# Altium schematic symbol library elisa.SchLib: 34 symbols (part 1 of 2)
Pins are listed as number, name and electrical type; pins without a type are passive.

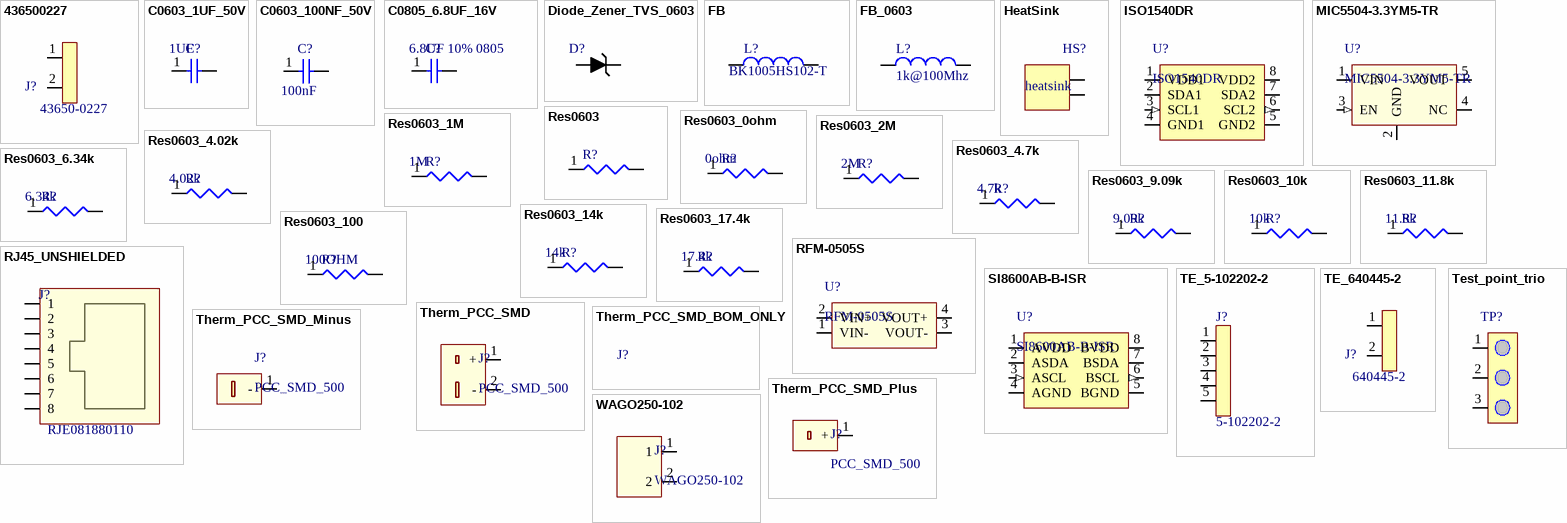
[diagram p0: symbols 436500227 to WAGO250-102]

## 436500227
designator J?  Manufacturer Part Number 1: 43650-0227  (hidden comment: *)
CONN HEADER VERT 2POS 3MM; Manufacturer 1: Molex; Connector Type: Header,Male Pin; Number of Positions: 2; Number of Ports: 1; Mount: Through Hole; Contact Material: Brass; Contact Plating: Tin,Bright; Color: Black; Housing Material: Thermoplastic; Number of Terminals: 2; Contact Shape: Square; Insulation Material: Polymer; Min Operating Temperature: -40°C; Max Operating Temperature: 105°C; Packaging: Tray; Package Quantity: 3264; Number of Rows: 1; Fastening Type: Ramp; Termination: Solder; Number of Contacts: 2; Orientation: Straight; Length: 9.65mm; Pitch: 3mm; Depth: 5.57mm; ComponentLink1URL: https://datasheet.ciiva.com/6840/436500227-sd-6840390.pdf?src-supplier=Digi-Key; ComponentLink1Description: https://datasheet.ciiva.com/6840/436500227-sd-6840390.pdf?src-supplier=Digi-Key; ComponentLink2URL: https://datasheet.ciiva.com/3944/28290436500227-pcb-headers-3944690.pdf?src-supplier=Arrow; ComponentLink2Description: https://datasheet.ciiva.com/3944/28290436500227-pcb-headers-3944690.pdf?src-supplier=Arrow; ComponentLink3URL: https://datasheet.ciiva.com/30077/0436500227-pcb-headers-30077244.pdf?src-supplier=Onlinecomponents.com; ComponentLink3Description: https://datasheet.ciiva.com/30077/0436500227-pcb-headers-30077244.pdf?src-supplier=Onlinecomponents.com; ComponentLink4URL: https://datasheet.ciiva.com/7920/1629867-7920765.pdf?src-supplier=Element14; ComponentLink4Description: https://datasheet.ciiva.com/7920/1629867-7920765.pdf?src-supplier=Element14; Pricing 1: 1=0.80000, 10=0.74800, 100=0.57340, 500=0.49860, 1000=0.41135, 5000=0.36149, 10000=0.33656 (USD); RoHS: Yes; Stock 1: 4450; Supplier 1: Digi-Key; Supplier Part Number 1: WM10656-ND
footprint 436500227
pins: 1, 2

## C0603_1UF_50V
designator C?, comment 1UF
CAP CER 1UF 50V X5R 0603; Manufacturer 1: TDK; Manufacturer Part Number 1: CGA3E3X5R1H105K080AB; Tolerance: 10%; ComponentLink1URL: https://product.tdk.com/info/en/catalog/datasheets/mlcc_automotive_general_en.pdf; ComponentLink1Description: https://product.tdk.com/info/en/catalog/datasheets/mlcc_automotive_general_en.pdf; Mount: Surface Mount; Case/Package: 0603; Weight: 7.1E-05oz; Case Code (Imperial): 0603; Case Code (Metric): 1608; Min Operating Temperature: -55°C; Max Operating Temperature: 85°C; Capacitance: 1uF; Voltage Rating: 50V; Voltage Rating (DC): 50V; Packaging: Tape and Reel; Package Quantity: 1; Termination: SMD/SMT; Composition: Ceramic; Dielectric: X5R; Length: 1.6mm; Height: 0.8mm; Width: 0.8mm; Thickness: 0.031inch; Depth: 0.8mm; Ratings: AEC-Q200; Lead Free: Lead Free; REACH SVHC: No SVHC; ComponentLink2URL: https://datasheet.ciiva.com/24218/cga3e3x5r1h105k080ab-265988-24218999.pdf?src-supplier=Mouser; ComponentLink2Description: https://datasheet.ciiva.com/24218/cga3e3x5r1h105k080ab-265988-24218999.pdf?src-supplier=Mouser; ComponentLink3URL: https://datasheet.ciiva.com/7975/1807242-7975388.pdf?src-supplier=Element14; ComponentLink3Description: https://datasheet.ciiva.com/7975/1807242-7975388.pdf?src-supplier=Element14; Supplier 1: Digi-Key; Supplier Part Number 1: 445-7878-1-ND; RoHS: Yes; Category: Ceramic Capacitors; Stock 1: 200723; Pricing 1: 1=0.25000, 10=0.17300, 50=0.11560, 100=0.09820, 500=0.06930, 1000=0.06064 (USD)
footprint 0603R(1608)
pins: 1, 2

## C0603_100NF_50V
designator C?  value 100nF  (hidden comment: *)
CAP CER 0.1UF 50V X5R 0603; Manufacturer: TDK Corporation; Manufacturer Part Number: CGA3E2X5R1H104K080AA; Capacitance: 0.1µF; Tolerance: ±10%; Supplier 1: Digi-Key; Supplier Part Number 1: 445-12498-1-ND; RoHS: RoHS Compliant; Category: Capacitors; Stock 1: 8997; Pricing 1: 1=0.1, 10=0.076, 25=0.0552, 50=0.0414, 100=0.0338, 250=0.02828, 500=0.02416, 1000=0.01898 (USD); Packaging: Cut Tape (CT); Part Status: Active; Voltage - Rated: 50V; Temperature Coefficient: X5R; Operating Temperature: -55°C ~ 85°C; Features: -; Ratings: AEC-Q200; Applications: Automotive; Failure Rate: -; Mounting Type: Surface Mount, MLCC; Package / Case: 0603 (1608 Metric); Size / Dimension: 0.063" L x 0.031" W (1.60mm x 0.80mm); Height - Seated (Max): -; Thickness (Max): 0.035" (0.90mm); Lead Spacing: -; Lead Style: -; ComponentLink1URL: https://product.tdk.com/info/en/catalog/datasheets/mlcc_automotive_general_en.pdf; ComponentLink1Description: https://product.tdk.com/info/en/catalog/datasheets/mlcc_automotive_general_en.pdf
footprint 0603R(1608)
pins: 1, 2

## C0805_6.8UF_16V
designator C?, comment 6.8UF 10% 0805
CAP CER 6.8UF 16V X5R 0805; Manufacturer Part Number 1: CGA4J1X5R1C685K125AC; Manufacturer 1: TDK; ComponentLink1URL: http://www.yageo.com/documents/recent/UPY-GPHC_X5R_4V-to-50V_24.pdf; ComponentLink1Description: http://www.yageo.com/documents/recent/UPY-GPHC_X5R_4V-to-50V_24.pdf; Mount: Surface Mount; Case/Package: 0805; Case Code (Metric): 2012; Case Code (Imperial): 0805; Min Operating Temperature: -55°C; Max Operating Temperature: 85°C; Package Quantity: 2000; Packaging: Tape and Reel; Capacitance: 6.8uF; Tolerance: 10%; Voltage Rating: 16V; Length: 0.079inch; Thickness: 0.057inch; Width: 0.049inch; Ratings: AEC-Q200; ComponentLink2URL: https://product.tdk.com/info/en/catalog/datasheets/mlcc_automotive_general_en.pdf?src-supplier=Digi-Key; ComponentLink2Description: https://product.tdk.com/info/en/catalog/datasheets/mlcc_automotive_general_en.pdf?src-supplier=Digi-Key; ComponentLink3URL: https://product.tdk.com/info/en/documents/chara_sheet/CGA4J1X5R1C685K125AC.pdf?src-supplier=Digi-Key; ComponentLink3Description: https://product.tdk.com/info/en/documents/chara_sheet/CGA4J1X5R1C685K125AC.pdf?src-supplier=Digi-Key; ComponentLink4URL: http://product.tdk.com/en/catalog/datasheets/mlcc_automotive_general_en.pdf?src-supplier=Avnet; ComponentLink4Description: http://product.tdk.com/en/catalog/datasheets/mlcc_automotive_general_en.pdf?src-supplier=Avnet; Pricing 1: 1=0.46000, 10=0.32200, 50=0.24340, 100=0.21210, 500=0.15708, 1000=0.13352 (USD); Stock 1: 3937; Category: Ceramic Capacitors; RoHS: Yes; Supplier 1: Digi-Key; Supplier Part Number 1: 445-12661-1-ND
simulation model CAP (Capacitor)
footprint 0805
pins: 1, 2

## Diode_Zener_TVS_0603
designator D?  (value not drawn)
TVS DIODE 5V 25V 0603/SOD523F; Manufacturer 1: Comchip; Manufacturer Part Number 1: CPDU5V0USP-HF; Peak Pulse Current: 3A; Number of Unidirectional Channels: 1; Min Breakdown Voltage: 5.4V; Peak Pulse Power: 75W; Power Line Protection: No; Mount: Surface Mount; Case/Package: 0603; Case Code (Metric): 1608; Case Code (Imperial): 0603; Min Operating Temperature: -55°C; Max Operating Temperature: 150°C; Packaging: Tape and Reel; Composition: Zener; Reverse Standoff Voltage: 5V; Clamping Voltage: 25V; ComponentLink1URL: http://www.comchiptech.com/admin/files/product/CPDU5V0USP-HF RevC423724.pdf?src-supplier=Digi-Key; ComponentLink1Description: http://www.comchiptech.com/admin/files/product/CPDU5V0USP-HF RevC423724.pdf?src-supplier=Digi-Key; Supplier Part Number 1: 641-1763-1-ND; Supplier 1: Digi-Key; RoHS: Yes; Category: TVS Diodes; Stock 1: 46889; Pricing 1: 1=0.35000, 10=0.26100, 25=0.22840, 100=0.12390, 250=0.12324, 500=0.10106, 1000=0.07498 (USD)
footprint 0603D(1608mm)
pins: A, K

## FB
designator L?  Manufacturer Part Number 1: BK1005HS102-T  (hidden comment: *)
FERRITE BEAD 1 KOHM 0402 1LN; Manufacturer 1: Taiyo Yuden; Tolerance: 25%; Shielding: Unshielded; Impedance: 1kR; DC Resistance (DCR): 580mR; Max DC Current: 300mA; Number of Lines: 1; Test Frequency: 100MHz; Case/Package: 0402; Number of Pins: 2; Core Material: Ferrite; Case Code (Metric): 1005; Case Code (Imperial): 0402; Material: Ferrite; Min Operating Temperature: -55°C; Max Operating Temperature: 125°C; Packaging: Tape and Reel; Package Quantity: 1; Current Rating: 300mA; Max Current Rating: 300mA; Termination: SMD/SMT; Length: 1mm; Height: 0.5mm; Width: 0.02inch; Depth: 0.55mm; Lead Free: Lead Free; Halogen Free: Halogen Free; REACH SVHC: Unknown; ComponentLink1URL: https://datasheet.ciiva.com/1011/bk1005hs102-t-ss-1011744.pdf?src-supplier=Digi-Key; ComponentLink1Description: https://datasheet.ciiva.com/1011/bk1005hs102-t-ss-1011744.pdf?src-supplier=Digi-Key; ComponentLink2URL: https://datasheet.ciiva.com/25612/0900766b810b3a67-25612385.pdf?src-supplier=RSComponents; ComponentLink2Description: https://datasheet.ciiva.com/25612/0900766b810b3a67-25612385.pdf?src-supplier=RSComponents; ComponentLink3URL: https://datasheet.ciiva.com/30172/965bk1005hs102-t-30172156.pdf?src-supplier=Onlinecomponents.com; ComponentLink3Description: https://datasheet.ciiva.com/30172/965bk1005hs102-t-30172156.pdf?src-supplier=Onlinecomponents.com; ComponentLink4URL: https://datasheet.ciiva.com/1011/mlci07-e-1011745.pdf?src-supplier=Digi-Key; ComponentLink4Description: https://datasheet.ciiva.com/1011/mlci07-e-1011745.pdf?src-supplier=Digi-Key; ComponentLink5URL: https://datasheet.ciiva.com/1011/mlci07-e-1011746.pdf?src-supplier=Digi-Key; ComponentLink5Description: https://datasheet.ciiva.com/1011/mlci07-e-1011746.pdf?src-supplier=Digi-Key; Pricing 1: 1=0.10000, 10=0.04100, 25=0.03640, 50=0.03300, 100=0.02970, 250=0.02180, 500=0.01584, 1000=0.01551, 5000=0.01056 (USD); RoHS: Yes; Stock 1: 221896; Supplier 1: Digi-Key; Supplier Part Number 1: 587-1841-1-ND
simulation model INDUCTOR (Inductor)
signal-integrity model Inductor
footprint 0402-FB
pins: 1, 2

## FB_0603
designator L?, comment 1k@100Mhz
Ferrite Beads Multi-Layer Power 1KOhm 25% 100MHz 1A 200mOhm DCR 0603 Automotive T/R; Manufacturer 1: Murata; Manufacturer Part Number 1: BLM18KG102SZ1D; Number of Lines: 1; DC Resistance (DCR): 200mR; ComponentLink1URL: https://datasheet.ciiva.com/46634/beads-commercial-power-mpz-en-46634677.pdf?src-supplier=Digi-Key; ComponentLink1Description: https://datasheet.ciiva.com/46634/beads-commercial-power-mpz-en-46634677.pdf?src-supplier=Digi-Key; ComponentLink2URL: https://datasheet.ciiva.com/48682/beads-commercial-power-mpz-en-48682501.pdf?src-supplier=Avnet; ComponentLink2Description: https://datasheet.ciiva.com/48682/beads-commercial-power-mpz-en-48682501.pdf?src-supplier=Avnet; ComponentLink3URL: https://datasheet.ciiva.com/46634/beads-commercial-power-mpz-en-46634684.pdf?src-supplier=Digi-Key; ComponentLink3Description: https://datasheet.ciiva.com/46634/beads-commercial-power-mpz-en-46634684.pdf?src-supplier=Digi-Key; ComponentLink4URL: https://datasheet.ciiva.com/46634/beads-commercial-power-mpz-en-46634621.pdf?src-supplier=Digi-Key; ComponentLink4Description: https://datasheet.ciiva.com/46634/beads-commercial-power-mpz-en-46634621.pdf?src-supplier=Digi-Key; Mount: Surface Mount; Case/Package: 0603; Case Code (Imperial): 0603; Case Code (Metric): 1608; Min Operating Temperature: -55°C; Max Operating Temperature: 125°C; Packaging: Cut Tape; Max Current Rating: 1A; Ratings: AEC-Q200; ComponentLink5URL: https://www.murata.com/~/media/webrenewal/support/library/catalog/products/emc/emifil/c51e.ashx?la=en-us&src-supplier=Digi-Key; ComponentLink5Description: https://www.murata.com/~/media/webrenewal/support/library/catalog/products/emc/emifil/c51e.ashx?la=en-us&src-supplier=Digi-Key; ComponentLink6URL: https://www.murata.com/en-us/products/productdata/8796750610462/QNFA9122.pdf?src-supplier=Digi-Key; ComponentLink6Description: https://www.murata.com/en-us/products/productdata/8796750610462/QNFA9122.pdf?src-supplier=Digi-Key; Supplier 1: Digi-Key; Supplier Part Number 1: 490-17350-1-ND; RoHS: No; Stock 1: 14664; Pricing 1: 1=0.10000, 10=0.07300, 25=0.06520, 50=0.05540, 100=0.04880, 250=0.04476, 500=0.04070, 1000=0.03419 (USD)
simulation model INDUCTOR (Inductor)
signal-integrity model Inductor
footprint 0603FB(1608mm)
pins: 1, 2

## HeatSink
designator HS?, comment Aavid5733  (value not drawn)
Surface Mount Heat Sink for D2PAK
footprint Aavid5733 (Heat Sink to be installed around D2PAK)
pins: 1 GND, 2 GND
text: heatsink

## ISO1540DR
designator U?
TEXAS INSTRUMENTS - ISO1540DR - DIGITAL ISOLATOR, 2-CH, 1MBPS, SOIC-8; Number of Channels: 2; Min Supply Voltage: 3V; Max Supply Voltage: 5.5V; Nominal Supply Current: 3.6mA; Channel Type: Bidirectional; Propagation Delay: 70ns; Isolated Power: No; Pulse Width Distortion (PWD): 21ns; Working Voltage: 566V; Mount: Surface Mount; Case/Package: SOIC; Number of Pins: 8; Min Operating Temperature: -40°C; Max Operating Temperature: 125°C; Data Rate: 1Mbps; Packaging: Tape and Reel; Package Quantity: 1; REACH SVHC: No SVHC; Lead Free: Lead Free; ComponentLink1URL: https://datasheet.ciiva.com/6579/iso1540-6579725.pdf?src-supplier=Digi-Key; ComponentLink1Description: https://datasheet.ciiva.com/6579/iso1540-6579725.pdf?src-supplier=Digi-Key; ComponentLink2URL: https://datasheet.ciiva.com/6579/iso1540-6579723.pdf?src-supplier=Digi-Key; ComponentLink2Description: https://datasheet.ciiva.com/6579/iso1540-6579723.pdf?src-supplier=Digi-Key; ComponentLink3URL: https://datasheet.ciiva.com/6579/iso1540-6579724.pdf?src-supplier=Digi-Key; ComponentLink3Description: https://datasheet.ciiva.com/6579/iso1540-6579724.pdf?src-supplier=Digi-Key; ComponentLink4URL: https://datasheet.ciiva.com/14196/iso1540-14196749.pdf?src-supplier=Avnet; ComponentLink4Description: https://datasheet.ciiva.com/14196/iso1540-14196749.pdf?src-supplier=Avnet; Supplier 1: Digi-Key; Supplier Part Number 1: 296-34871-1-ND; Manufacturer 1: Texas Instruments; Manufacturer Part Number 1: ISO1540DR; Category: Interface ICs; RoHS: Yes; Stock 1: 30535; Pricing 1: 1=4.51000, 10=4.04600, 25=3.82520, 100=3.14500, 250=2.82200, 500=2.72000, 1000=2.26100 (USD)
footprint SOIC_8_N
pins: 1 VDD1 (power), 2 SDA1 (io), 3 SCL1 (in), 4 GND1 (power), 5 GND2 (power), 6 SCL2 (out), 7 SDA2 (io), 8 VDD2 (power)

## MIC5504-3.3YM5-TR
designator U?
MICROCHIP - MIC5504-3.3YM5-TR - LDO VOLT REG, 0.3A, 3.3V, SOT-23-5; Min Input Voltage: 2.5V; Max Input Voltage: 5.5V; Output Current: 300mA; Dropout Voltage: 380mV; Number of Outputs: 1; Quiescent Current: 38uA; Accuracy: 3%; Operating Supply Current: 42uA; Power Supply Rejection Ratio (PSRR): 60dB; Output Type: Fixed; Mount: Surface Mount; Case/Package: SOT-23-5; Number of Pins: 5; Min Operating Temperature: -40°C; Max Operating Temperature: 125°C; Nominal Output Voltage: 3.3V; Packaging: Tape and Reel; Output Voltage: 3.3V; Max Output Current: 300mA; Length: 2.9mm; Height: 1.1mm; Width: 1.6mm; REACH SVHC: No SVHC; ComponentLink1URL: https://datasheet.ciiva.com/46425/1856860-46425639.pdf?src-supplier=Element14; ComponentLink1Description: https://datasheet.ciiva.com/46425/1856860-46425639.pdf?src-supplier=Element14; Supplier 1: Digi-Key; Supplier Part Number 1: 576-4764-1-ND; Manufacturer 1: Microchip; Manufacturer Part Number 1: MIC5504-3.3YM5-TR; RoHS: Yes; Category: Voltage Regulators - Linear; Stock 1: 1142; Pricing 1: 1=0.11000, 25=0.09000, 100=0.08000 (USD)
footprint SOT_23_5
pins: 1 VIN (power), 2 GND (power), 3 EN (in), 4 NC, 5 VOUT (power)

## Res0603
designator R?  (value not drawn)
simulation model RESISTOR (Resistor)
signal-integrity model Res
footprint 0603R(1608)
pins: 1, 2

## Res0603_0ohm
designator R?, comment 0ohm
RES 0 OHM JUMPER 0603 SMD; Manufacturer 1: Panasonic; Manufacturer Part Number 1: ERJ-U030R00V; Resistance: 0mR; Power Rating: 100mW; Mount: Surface Mount; Case/Package: 0603; Weight: 7.1E-05oz; Case Code (Imperial): 0603; Case Code (Metric): 1608; Contact Plating: Tin; Min Operating Temperature: -55°C; Max Operating Temperature: 155°C; Composition: Thick Film; Termination: SMD/SMT; Packaging: Tape and Reel; Package Quantity: 5000; Length: 1.6mm; Height: 0.45mm; Width: 0.8mm; Radiation Hardening: No; Lead Free: Lead Free; ComponentLink1URL: https://datasheet.ciiva.com/29928/aoa0000ce5-29928299.pdf?src-supplier=Avnet; ComponentLink1Description: https://datasheet.ciiva.com/29928/aoa0000ce5-29928299.pdf?src-supplier=Avnet; ComponentLink2URL: https://datasheet.ciiva.com/24129/ras-erj-u-267552-24129276.pdf?src-supplier=Mouser; ComponentLink2Description: https://datasheet.ciiva.com/24129/ras-erj-u-267552-24129276.pdf?src-supplier=Mouser; Supplier 1: Digi-Key; Supplier Part Number 1: 10-ERJ-U030R00VCT-ND; RoHS: Yes; Category: Chip SMD Resistors; Stock 1: 1407; Pricing 1: 1=0.10000, 10=0.08400, 100=0.03250, 1000=0.01428, 2500=0.01233 (USD)
simulation model RESISTOR (Resistor)
signal-integrity model Res
footprint 0603R(1608)
pins: 1, 2

## Res0603_1M
designator R?, comment 1M
RES SMD 1M OHM 1% 1/10W 0603; Manufacturer 1: Panasonic; Manufacturer Part Number 1: ERJ-3EKF1004V; Resistance: 1MR; Temperature Coefficient: 100ppm/°C; Power Rating: 100mW; Voltage Rating: 75V; Mount: Surface Mount; Case/Package: 0603; Number of Pins: 2; Contact Plating: Tin; Case Code (Imperial): 0603; Case Code (Metric): 1608; Min Operating Temperature: -55°C; Max Operating Temperature: 155°C; Tolerance: 1%; Composition: Thick Film; Packaging: Tape and Reel; Package Quantity: 1; Termination: SMD/SMT; Number of Terminations: 2; Military Standard: Not; Max Power Dissipation: 100mW; Voltage Rating (DC): 75V; Features: Automotive AEC-Q200; Length: 1.6mm; Height: 0.022inch; Width: 0.8mm; Depth: 0.8mm; Radiation Hardening: No; REACH SVHC: No SVHC; Lead Free: Lead Free; ComponentLink1URL: https://datasheet.ciiva.com/2432/aoa0000c304-2432473.pdf?src-supplier=Digi-Key; ComponentLink1Description: https://datasheet.ciiva.com/2432/aoa0000c304-2432473.pdf?src-supplier=Digi-Key; Supplier Part Number 1: P1.00MHCT-ND; Supplier 1: Digi-Key; RoHS: Yes; Category: Chip SMD Resistors; Stock 1: 65782; Pricing 1: 1=0.10000, 10=0.03500, 100=0.01430, 1000=0.00641, 2500=0.00557 (USD)
simulation model RESISTOR (Resistor)
signal-integrity model Res
footprint 0603R(1608)
pins: 1, 2

## Res0603_2M
designator R?, comment 2M
RES SMD 2M OHM 1% 1/10W 0603; Manufacturer 1: Panasonic; Manufacturer Part Number 1: ERJ-3EKF2004V; Resistance: 2MR; Power Rating: 100mW; Voltage Rating: 75V; Temperature Coefficient: 100ppm/°C; Voltage Rating (DC): 50V; Mount: Surface Mount; Case/Package: 0603; Weight: 7.1E-05oz; Case Code (Metric): 1608; Case Code (Imperial): 0603; Contact Plating: Tin; Min Operating Temperature: -55°C; Max Operating Temperature: 155°C; Tolerance: 1%; Packaging: Tape and Reel; Package Quantity: 1; Composition: Thick Film; Number of Terminations: 2; Termination: SMD/SMT; Military Standard: Not; Max Power Dissipation: 100mW; Features: Automotive AEC-Q200; Length: 1.6mm; Height: 0.022inch; Width: 0.031inch; Depth: 0.8mm; Radiation Hardening: No; REACH SVHC: Unknown; Lead Free: Lead Free; ComponentLink1URL: https://datasheet.ciiva.com/15158/getdatasheetpartid-246477-15158838.pdf?src-supplier=Verical; ComponentLink1Description: https://datasheet.ciiva.com/15158/getdatasheetpartid-246477-15158838.pdf?src-supplier=Verical; ComponentLink2URL: https://datasheet.ciiva.com/16758/70260748-16758662.pdf?src-supplier=Allied+Electronics; ComponentLink2Description: https://datasheet.ciiva.com/16758/70260748-16758662.pdf?src-supplier=Allied+Electronics; ComponentLink3URL: https://datasheet.ciiva.com/28594/1694929-28594632.pdf?src-supplier=Element14; ComponentLink3Description: https://datasheet.ciiva.com/28594/1694929-28594632.pdf?src-supplier=Element14; ComponentLink4URL: https://datasheet.ciiva.com/30178/aoa0000ce2-30178728.pdf?src-supplier=Onlinecomponents.com; ComponentLink4Description: https://datasheet.ciiva.com/30178/aoa0000ce2-30178728.pdf?src-supplier=Onlinecomponents.com; ComponentLink5URL: https://datasheet.ciiva.com/5951/1678782-5951962.pdf?src-supplier=Farnell; ComponentLink5Description: https://datasheet.ciiva.com/5951/1678782-5951962.pdf?src-supplier=Farnell; ComponentLink6URL: https://datasheet.ciiva.com/7853/1678782-7853709.pdf?src-supplier=Element14; ComponentLink6Description: https://datasheet.ciiva.com/7853/1678782-7853709.pdf?src-supplier=Element14; ComponentLink7URL: https://datasheet.ciiva.com/16780/70260748-16780974.pdf?src-supplier=Allied+Electronics; ComponentLink7Description: https://datasheet.ciiva.com/16780/70260748-16780974.pdf?src-supplier=Allied+Electronics; ComponentLink8URL: https://datasheet.ciiva.com/24162/aoa0000ce2-24162142.pdf?src-supplier=Mouser; ComponentLink8Description: https://datasheet.ciiva.com/24162/aoa0000ce2-24162142.pdf?src-supplier=Mouser; Supplier 1: Digi-Key; Supplier Part Number 1: P2.00MHCT-ND; RoHS: Yes; Pricing 1: 1=0.10000, 10=0.05800, 100=0.02370, 1000=0.01065, 2500=0.00925 (USD); Stock 1: 241456; Category: Chip SMD Resistors
simulation model RESISTOR (Resistor)
signal-integrity model Res
footprint 0603R(1608)
pins: 1, 2

## Res0603_4.02k
designator R?, comment 4.02k
RES SMD 4.02K OHM 1% 1/10W 0603; Manufacturer 1: Panasonic; Manufacturer Part Number 1: ERJ-3EKF4021V; Resistance: 4.02kR; Temperature Coefficient: 100ppm/°C; Power Rating: 100mW; Voltage Rating: 75V; Voltage Rating (DC): 50V; Mount: Surface Mount; Case/Package: 0603; Contact Plating: Tin; Case Code (Metric): 1608; Case Code (Imperial): 0603; Min Operating Temperature: -55°C; Max Operating Temperature: 155°C; Tolerance: 1%; Composition: Thick Film; Packaging: Tape and Reel; Package Quantity: 1; Number of Terminations: 2; Military Standard: Not; Termination: SMD/SMT; Max Power Dissipation: 100mW; Features: Automotive AEC-Q200; Length: 1.6mm; Height: 0.022inch; Width: 0.031inch; Depth: 0.8mm; Radiation Hardening: No; REACH SVHC: No SVHC; Lead Free: Lead Free; ComponentLink1URL: https://datasheet.ciiva.com/30235/aoa0000ce2-30235126.pdf?src-supplier=Onlinecomponents.com; ComponentLink1Description: https://datasheet.ciiva.com/30235/aoa0000ce2-30235126.pdf?src-supplier=Onlinecomponents.com; ComponentLink2URL: https://datasheet.ciiva.com/27055/1988081-27055687.pdf?src-supplier=Jameco; ComponentLink2Description: https://datasheet.ciiva.com/27055/1988081-27055687.pdf?src-supplier=Jameco; ComponentLink3URL: https://datasheet.ciiva.com/28694/1678782-28694215.pdf?src-supplier=Element14; ComponentLink3Description: https://datasheet.ciiva.com/28694/1678782-28694215.pdf?src-supplier=Element14; ComponentLink4URL: https://datasheet.ciiva.com/5969/426256-5969272.pdf?src-supplier=Farnell; ComponentLink4Description: https://datasheet.ciiva.com/5969/426256-5969272.pdf?src-supplier=Farnell; ComponentLink5URL: https://datasheet.ciiva.com/16783/70260748-16783209.pdf?src-supplier=Allied+Electronics; ComponentLink5Description: https://datasheet.ciiva.com/16783/70260748-16783209.pdf?src-supplier=Allied+Electronics; ComponentLink6URL: https://datasheet.ciiva.com/24027/aoa0000ce2-24027179.pdf?src-supplier=Mouser; ComponentLink6Description: https://datasheet.ciiva.com/24027/aoa0000ce2-24027179.pdf?src-supplier=Mouser; ComponentLink7URL: https://datasheet.ciiva.com/43460/426256-43460507.pdf?src-supplier=Farnell; ComponentLink7Description: https://datasheet.ciiva.com/43460/426256-43460507.pdf?src-supplier=Farnell; ComponentLink8URL: https://datasheet.ciiva.com/16511/aoa0000ce2-16511756.pdf?src-supplier=Avnet+Asia; ComponentLink8Description: https://datasheet.ciiva.com/16511/aoa0000ce2-16511756.pdf?src-supplier=Avnet+Asia; ComponentLink9URL: https://datasheet.ciiva.com/48531/aoa0000ce2-48531037.pdf?src-supplier=Avnet; ComponentLink9Description: https://datasheet.ciiva.com/48531/aoa0000ce2-48531037.pdf?src-supplier=Avnet; ComponentLink10URL: https://datasheet.ciiva.com/16781/70260748-16781502.pdf?src-supplier=Allied+Electronics; ComponentLink10Description: https://datasheet.ciiva.com/16781/70260748-16781502.pdf?src-supplier=Allied+Electronics; ComponentLink11URL: https://datasheet.ciiva.com/28548/1678782-28548318.pdf?src-supplier=Element14; ComponentLink11Description: https://datasheet.ciiva.com/28548/1678782-28548318.pdf?src-supplier=Element14; ComponentLink12URL: https://datasheet.ciiva.com/46376/426256-46376943.pdf?src-supplier=Element14; ComponentLink12Description: https://datasheet.ciiva.com/46376/426256-46376943.pdf?src-supplier=Element14; Supplier 1: Digi-Key; Supplier Part Number 1: P4.02KHCT-ND; RoHS: Yes; Category: Chip SMD Resistors; Stock 1: 97776; Pricing 1: 1=0.10000, 10=0.05800, 100=0.02340, 1000=0.01052, 2500=0.00913 (USD)
simulation model RESISTOR (Resistor)
signal-integrity model Res
footprint 0603R(1608)
pins: 1, 2

## Res0603_4.7k
designator R?, comment 4.7k
RESISTOR, 0603, 0.1W, 1%, 4K7; Manufacturer 1: Panasonic; Manufacturer Part Number 1: ERJ-3EKF4701V; Resistance: 4.7kR; Temperature Coefficient: 100ppm/°C; Power Rating: 100mW; Voltage Rating: 75V; Mount: Surface Mount; Case/Package: 0603; Number of Pins: 2; Weight: 7.1E-05oz; Contact Plating: Tin; Case Code (Metric): 1608; Case Code (Imperial): 0603; Min Operating Temperature: -55°C; Max Operating Temperature: 155°C; Tolerance: 1%; Composition: Thick Film; Packaging: Tape and Reel; Package Quantity: 1; Number of Terminations: 2; Termination: SMD/SMT; Military Standard: Not; Max Power Dissipation: 100mW; Voltage Rating (DC): 75V; Features: Automotive AEC-Q200; Length: 1.6mm; Height: 0.022inch; Width: 0.031inch; Depth: 0.8mm; Radiation Hardening: No; REACH SVHC: No SVHC; Lead Free: Lead Free; ComponentLink1URL: https://datasheet.ciiva.com/16449/aoa0000ce2-16449479.pdf?src-supplier=Future+Electronics; ComponentLink1Description: https://datasheet.ciiva.com/16449/aoa0000ce2-16449479.pdf?src-supplier=Future+Electronics; ComponentLink2URL: https://datasheet.ciiva.com/9195/aoa0000ce2-9195740.pdf?src-supplier=Avnet; ComponentLink2Description: https://datasheet.ciiva.com/9195/aoa0000ce2-9195740.pdf?src-supplier=Avnet; ComponentLink3URL: https://datasheet.ciiva.com/16758/70260748-16758189.pdf?src-supplier=Allied+Electronics; ComponentLink3Description: https://datasheet.ciiva.com/16758/70260748-16758189.pdf?src-supplier=Allied+Electronics; ComponentLink4URL: https://datasheet.ciiva.com/24160/aoa0000ce2-24160445.pdf?src-supplier=Mouser; ComponentLink4Description: https://datasheet.ciiva.com/24160/aoa0000ce2-24160445.pdf?src-supplier=Mouser; ComponentLink5URL: https://datasheet.ciiva.com/46372/1678782-46372717.pdf?src-supplier=Element14; ComponentLink5Description: https://datasheet.ciiva.com/46372/1678782-46372717.pdf?src-supplier=Element14; ComponentLink6URL: https://datasheet.ciiva.com/7830/aoa0000ce2-7830735.pdf?src-supplier=Element14; ComponentLink6Description: https://datasheet.ciiva.com/7830/aoa0000ce2-7830735.pdf?src-supplier=Element14; ComponentLink7URL: https://datasheet.ciiva.com/16511/aoa0000ce2-16511783.pdf?src-supplier=Avnet+Asia; ComponentLink7Description: https://datasheet.ciiva.com/16511/aoa0000ce2-16511783.pdf?src-supplier=Avnet+Asia; ComponentLink8URL: https://datasheet.ciiva.com/7830/426256-7830985.pdf?src-supplier=Element14; ComponentLink8Description: https://datasheet.ciiva.com/7830/426256-7830985.pdf?src-supplier=Element14; ComponentLink9URL: https://datasheet.ciiva.com/46372/1678782-46372716.pdf?src-supplier=Element14; ComponentLink9Description: https://datasheet.ciiva.com/46372/1678782-46372716.pdf?src-supplier=Element14; ComponentLink10URL: https://datasheet.ciiva.com/17213/aoa0000ce2-17213182.pdf?src-supplier=Avnet+Europe; ComponentLink10Description: https://datasheet.ciiva.com/17213/aoa0000ce2-17213182.pdf?src-supplier=Avnet+Europe; Supplier Part Number 1: P4.70KHCT-ND; Supplier 1: Digi-Key; RoHS: Yes; Category: Chip SMD Resistors; Stock 1: 133513; Pricing 1: 1=0.10000, 10=0.04900, 100=0.02010, 1000=0.00901, 2500=0.00782 (USD)
simulation model RESISTOR (Resistor)
signal-integrity model Res
footprint 0603R(1608)
pins: 1, 2

## Res0603_6.34k
designator R?, comment 6.34k
RES SMD 6.34K OHM 1% 1/10W 0603; Manufacturer 1: Panasonic; Manufacturer Part Number 1: ERJ-3EKF6341V; Resistance: 6.34kR; Power Rating: 100mW; Voltage Rating: 75V; Temperature Coefficient: 100ppm/°C; Voltage Rating (DC): 50V; Mount: Surface Mount; Case/Package: 0603; Case Code (Metric): 1608; Case Code (Imperial): 0603; Contact Plating: Tin; Min Operating Temperature: -55°C; Max Operating Temperature: 155°C; Tolerance: 1%; Packaging: Tape and Reel; Package Quantity: 1; Composition: Thick Film; Number of Terminations: 2; Military Standard: Not; Termination: SMD/SMT; Max Power Dissipation: 100mW; Features: Automotive AEC-Q200; Length: 1.6mm; Height: 0.022inch; Width: 0.031inch; Depth: 0.8mm; Radiation Hardening: No; REACH SVHC: Unknown; Lead Free: Lead Free; ComponentLink1URL: https://datasheet.ciiva.com/46377/426256-46377461.pdf?src-supplier=Element14; ComponentLink1Description: https://datasheet.ciiva.com/46377/426256-46377461.pdf?src-supplier=Element14; ComponentLink2URL: https://datasheet.ciiva.com/24027/aoa0000ce2-24027574.pdf?src-supplier=Mouser; ComponentLink2Description: https://datasheet.ciiva.com/24027/aoa0000ce2-24027574.pdf?src-supplier=Mouser; ComponentLink3URL: https://datasheet.ciiva.com/16787/70260748-16787879.pdf?src-supplier=Allied+Electronics; ComponentLink3Description: https://datasheet.ciiva.com/16787/70260748-16787879.pdf?src-supplier=Allied+Electronics; ComponentLink4URL: https://datasheet.ciiva.com/16774/70260748-16774456.pdf?src-supplier=Allied+Electronics; ComponentLink4Description: https://datasheet.ciiva.com/16774/70260748-16774456.pdf?src-supplier=Allied+Electronics; ComponentLink5URL: https://datasheet.ciiva.com/5972/426256-5972905.pdf?src-supplier=Farnell; ComponentLink5Description: https://datasheet.ciiva.com/5972/426256-5972905.pdf?src-supplier=Farnell; ComponentLink6URL: https://datasheet.ciiva.com/30215/aoa0000ce2-30215593.pdf?src-supplier=Onlinecomponents.com; ComponentLink6Description: https://datasheet.ciiva.com/30215/aoa0000ce2-30215593.pdf?src-supplier=Onlinecomponents.com; ComponentLink7URL: https://datasheet.ciiva.com/46389/426256-46389257.pdf?src-supplier=Element14; ComponentLink7Description: https://datasheet.ciiva.com/46389/426256-46389257.pdf?src-supplier=Element14; ComponentLink8URL: https://datasheet.ciiva.com/28692/1678782-28692282.pdf?src-supplier=Element14; ComponentLink8Description: https://datasheet.ciiva.com/28692/1678782-28692282.pdf?src-supplier=Element14; ComponentLink9URL: https://datasheet.ciiva.com/9117/aoa0000ce2-9117084.pdf?src-supplier=Avnet; ComponentLink9Description: https://datasheet.ciiva.com/9117/aoa0000ce2-9117084.pdf?src-supplier=Avnet; ComponentLink10URL: https://datasheet.ciiva.com/43460/426256-43460524.pdf?src-supplier=Farnell; ComponentLink10Description: https://datasheet.ciiva.com/43460/426256-43460524.pdf?src-supplier=Farnell; ComponentLink11URL: https://datasheet.ciiva.com/28594/1678782-28594702.pdf?src-supplier=Element14; ComponentLink11Description: https://datasheet.ciiva.com/28594/1678782-28594702.pdf?src-supplier=Element14; Supplier Part Number 1: P6.34KHCT-ND; Supplier 1: Digi-Key; RoHS: Yes; Category: Chip SMD Resistors; Stock 1: 198649; Pricing 1: 1=0.10000, 10=0.05000, 100=0.02030, 1000=0.00912, 2500=0.00791 (USD)
simulation model RESISTOR (Resistor)
signal-integrity model Res
footprint 0603R(1608)
pins: 1, 2

## Res0603_9.09k
designator R?, comment 9.09k
RES SMD 9.09K OHM 1% 1/10W 0603; Manufacturer 1: Panasonic; Manufacturer Part Number 1: ERJ-3EKF9091V; Resistance: 9.09kR; Power Rating: 100mW; Voltage Rating: 75V; Temperature Coefficient: 100ppm/°C; Voltage Rating (DC): 50V; Mount: Surface Mount; Case/Package: 0603; Case Code (Imperial): 0603; Case Code (Metric): 1608; Contact Plating: Tin; Min Operating Temperature: -55°C; Max Operating Temperature: 155°C; Package Quantity: 1; Packaging: Tape and Reel; Tolerance: 1%; Composition: Thick Film; Number of Terminations: 2; Military Standard: Not; Termination: SMD/SMT; Max Power Dissipation: 100mW; Features: Automotive AEC-Q200; Length: 1.6mm; Height: 0.022inch; Width: 0.8mm; Depth: 0.8mm; Radiation Hardening: No; REACH SVHC: No SVHC; Lead Free: Lead Free; ComponentLink1URL: https://datasheet.ciiva.com/16437/aoa0000ce2-16437814.pdf?src-supplier=Future+Electronics; ComponentLink1Description: https://datasheet.ciiva.com/16437/aoa0000ce2-16437814.pdf?src-supplier=Future+Electronics; ComponentLink2URL: https://datasheet.ciiva.com/28592/1678782-28592327.pdf?src-supplier=Element14; ComponentLink2Description: https://datasheet.ciiva.com/28592/1678782-28592327.pdf?src-supplier=Element14; ComponentLink3URL: https://datasheet.ciiva.com/43460/426256-43460536.pdf?src-supplier=Farnell; ComponentLink3Description: https://datasheet.ciiva.com/43460/426256-43460536.pdf?src-supplier=Farnell; ComponentLink4URL: https://datasheet.ciiva.com/46389/426256-46389914.pdf?src-supplier=Element14; ComponentLink4Description: https://datasheet.ciiva.com/46389/426256-46389914.pdf?src-supplier=Element14; ComponentLink5URL: https://datasheet.ciiva.com/16782/70260748-16782107.pdf?src-supplier=Allied+Electronics; ComponentLink5Description: https://datasheet.ciiva.com/16782/70260748-16782107.pdf?src-supplier=Allied+Electronics; ComponentLink6URL: https://datasheet.ciiva.com/16785/70260748-16785403.pdf?src-supplier=Allied+Electronics; ComponentLink6Description: https://datasheet.ciiva.com/16785/70260748-16785403.pdf?src-supplier=Allied+Electronics; ComponentLink7URL: https://datasheet.ciiva.com/9117/aoa0000ce2-9117228.pdf?src-supplier=Avnet; ComponentLink7Description: https://datasheet.ciiva.com/9117/aoa0000ce2-9117228.pdf?src-supplier=Avnet; ComponentLink8URL: https://datasheet.ciiva.com/5969/426256-5969389.pdf?src-supplier=Farnell; ComponentLink8Description: https://datasheet.ciiva.com/5969/426256-5969389.pdf?src-supplier=Farnell; Supplier 1: Digi-Key; Supplier Part Number 1: P9.09KHCT-ND; RoHS: Yes; Category: Chip SMD Resistors; Stock 1: 25110; Pricing 1: 1=0.10000, 10=0.04000, 100=0.01640, 1000=0.00737, 2500=0.00640 (USD)
simulation model RESISTOR (Resistor)
signal-integrity model Res
footprint 0603R(1608)
pins: 1, 2

## Res0603_10k
designator R?, comment 10k
RES SMD 10K OHM 1% 1/10W 0603; Manufacturer 1: Panasonic; Manufacturer Part Number 1: ERJ-3EKF1002V; Resistance: 10kR; Power Rating: 100mW; Voltage Rating: 75V; Temperature Coefficient: 100ppm/°C; Mount: Surface Mount; Case/Package: 0603; Number of Pins: 2; Case Code (Metric): 1608; Case Code (Imperial): 0603; Contact Plating: Tin; Min Operating Temperature: -55°C; Max Operating Temperature: 155°C; Tolerance: 1%; Packaging: Tape and Reel; Package Quantity: 1; Composition: Thick Film; Number of Terminations: 2; Termination: SMD/SMT; Military Standard: Not; Max Power Dissipation: 100mW; Voltage Rating (DC): 75V; Features: Automotive AEC-Q200; Length: 1.6mm; Height: 0.45mm; Width: 0.031inch; Depth: 0.8mm; Radiation Hardening: No; REACH SVHC: No SVHC; Lead Free: Lead Free; ComponentLink1URL: https://datasheet.ciiva.com/16511/aoa0000ce2-16511861.pdf?src-supplier=Avnet+Asia; ComponentLink1Description: https://datasheet.ciiva.com/16511/aoa0000ce2-16511861.pdf?src-supplier=Avnet+Asia; ComponentLink2URL: https://datasheet.ciiva.com/7830/aoa0000ce2-7830729.pdf?src-supplier=Element14; ComponentLink2Description: https://datasheet.ciiva.com/7830/aoa0000ce2-7830729.pdf?src-supplier=Element14; Supplier 1: Digi-Key; Supplier Part Number 1: P10.0KHCT-ND; RoHS: Yes; Category: Chip SMD Resistors; Stock 1: 2881776; Pricing 1: 1=0.10000, 10=0.04500, 100=0.01820, 1000=0.00819, 2500=0.00711 (USD)
simulation model RESISTOR (Resistor)
signal-integrity model Res
footprint 0603R(1608)
pins: 1, 2

## Res0603_11.8k
designator R?, comment 11.8k
RES SMD 11.8K OHM 1% 1/10W 0603; Manufacturer 1: Vishay; Manufacturer Part Number 1: CRCW060311K8FKEA; Resistance: 11.8kR; Power Rating: 100mW; Temperature Coefficient: 100ppm/°C; Voltage Rating: 75V; Case/Package: 0603; Number of Pins: 2; Weight: 7.1E-05oz; Case Code (Imperial): 0603; Case Code (Metric): 1608; Contact Plating: Tin; Min Operating Temperature: -55°C; Max Operating Temperature: 155°C; Tolerance: 1%; Packaging: Tape and Reel; Package Quantity: 10; Termination: SMD/SMT; Composition: Thick Film; Number of Terminations: 2; Max Power Dissipation: 100mW; Features: Automotive AEC-Q200; Military Standard: Not; Voltage Rating (DC): 75V; Working Voltage: 75V; Length: 1.55mm; Height: 0.02inch; Width: 0.85mm; Depth: 0.85mm; Radiation Hardening: No; Lead Free: Lead Free; REACH SVHC: Unknown; ComponentLink1URL: https://datasheet.ciiva.com/3256/dcrcwe3-3256981.pdf?src-supplier=Avnet; ComponentLink1Description: https://datasheet.ciiva.com/3256/dcrcwe3-3256981.pdf?src-supplier=Avnet; ComponentLink2URL: https://datasheet.ciiva.com/16781/70201119-16781751.pdf?src-supplier=Allied+Electronics; ComponentLink2Description: https://datasheet.ciiva.com/16781/70201119-16781751.pdf?src-supplier=Allied+Electronics; ComponentLink3URL: https://datasheet.ciiva.com/22700/1697337-22700698.pdf?src-supplier=Element14; ComponentLink3Description: https://datasheet.ciiva.com/22700/1697337-22700698.pdf?src-supplier=Element14; ComponentLink4URL: https://datasheet.ciiva.com/5545/dcrcwe3-109170-5545163.pdf?src-supplier=Mouser; ComponentLink4Description: https://datasheet.ciiva.com/5545/dcrcwe3-109170-5545163.pdf?src-supplier=Mouser; ComponentLink5URL: https://datasheet.ciiva.com/16202/dcrcwe3-16202907.pdf?src-supplier=Future+Electronics; ComponentLink5Description: https://datasheet.ciiva.com/16202/dcrcwe3-16202907.pdf?src-supplier=Future+Electronics; ComponentLink6URL: https://datasheet.ciiva.com/22871/70201119-22871211.pdf?src-supplier=Allied+Electronics; ComponentLink6Description: https://datasheet.ciiva.com/22871/70201119-22871211.pdf?src-supplier=Allied+Electronics; ComponentLink7URL: https://datasheet.ciiva.com/2466/dcrcwe3-2466557.pdf?src-supplier=Digi-Key; ComponentLink7Description: https://datasheet.ciiva.com/2466/dcrcwe3-2466557.pdf?src-supplier=Digi-Key; ComponentLink8URL: https://datasheet.ciiva.com/2466/dcrcwe3-2466558.pdf?src-supplier=Digi-Key; ComponentLink8Description: https://datasheet.ciiva.com/2466/dcrcwe3-2466558.pdf?src-supplier=Digi-Key; ComponentLink9URL: https://datasheet.ciiva.com/2466/dcrcwe3-2466559.pdf?src-supplier=Digi-Key; ComponentLink9Description: https://datasheet.ciiva.com/2466/dcrcwe3-2466559.pdf?src-supplier=Digi-Key; Supplier 1: Digi-Key; Supplier Part Number 1: 541-11.8KHCT-ND; RoHS: Yes; Category: Chip SMD Resistors; Stock 1: 13588; Pricing 1: 1=0.10000, 10=0.03400, 100=0.01390, 1000=0.00623, 2500=0.00540 (USD)
simulation model RESISTOR (Resistor)
signal-integrity model Res
footprint 0603R(1608)
pins: 1, 2

## Res0603_14k
designator R?, comment 14k
RES SMD 14K OHM 1% 1/10W 0603; Manufacturer Part Number 1: CRCW060314K0FKEA; Manufacturer 1: Vishay; Resistance: 14kR; Temperature Coefficient: 100ppm/°C; Power Rating: 100mW; Voltage Rating: 75V; Mount: Surface Mount; Case/Package: 0603; Number of Pins: 2; Weight: 7.1E-05oz; Contact Plating: Tin; Case Code (Imperial): 0603; Case Code (Metric): 1608; Min Operating Temperature: -55°C; Max Operating Temperature: 155°C; Tolerance: 1%; Composition: Thick Film; Packaging: Tape and Reel; Package Quantity: 10; Termination: SMD/SMT; Number of Terminations: 2; Max Power Dissipation: 100mW; Features: Automotive AEC-Q200; Military Standard: Not; Voltage Rating (DC): 75V; Length: 1.55mm; Height: 0.45mm; Width: 0.85mm; Depth: 0.85mm; Radiation Hardening: No; Lead Free: Lead Free; REACH SVHC: Unknown; ComponentLink1URL: https://datasheet.ciiva.com/11808/0900766b80d98afc-11808650.pdf?src-supplier=RSComponents; ComponentLink1Description: https://datasheet.ciiva.com/11808/0900766b80d98afc-11808650.pdf?src-supplier=RSComponents; ComponentLink2URL: https://datasheet.ciiva.com/7663/1697337-7663882.pdf?src-supplier=Element14; ComponentLink2Description: https://datasheet.ciiva.com/7663/1697337-7663882.pdf?src-supplier=Element14; ComponentLink3URL: https://datasheet.ciiva.com/22870/70201119-22870634.pdf?src-supplier=Allied+Electronics; ComponentLink3Description: https://datasheet.ciiva.com/22870/70201119-22870634.pdf?src-supplier=Allied+Electronics; ComponentLink4URL: https://datasheet.ciiva.com/16387/dcrcwe3-16387675.pdf?src-supplier=Future+Electronics; ComponentLink4Description: https://datasheet.ciiva.com/16387/dcrcwe3-16387675.pdf?src-supplier=Future+Electronics; ComponentLink5URL: https://datasheet.ciiva.com/16773/70201119-16773333.pdf?src-supplier=Allied+Electronics; ComponentLink5Description: https://datasheet.ciiva.com/16773/70201119-16773333.pdf?src-supplier=Allied+Electronics; ComponentLink6URL: https://datasheet.ciiva.com/2465/dcrcwe3-2465900.pdf?src-supplier=Digi-Key; ComponentLink6Description: https://datasheet.ciiva.com/2465/dcrcwe3-2465900.pdf?src-supplier=Digi-Key; ComponentLink7URL: https://datasheet.ciiva.com/2465/dcrcwe3-2465901.pdf?src-supplier=Digi-Key; ComponentLink7Description: https://datasheet.ciiva.com/2465/dcrcwe3-2465901.pdf?src-supplier=Digi-Key; ComponentLink8URL: https://datasheet.ciiva.com/2465/dcrcwe3-2465902.pdf?src-supplier=Digi-Key; ComponentLink8Description: https://datasheet.ciiva.com/2465/dcrcwe3-2465902.pdf?src-supplier=Digi-Key; Supplier 1: Digi-Key; Supplier Part Number 1: 541-14.0KHCT-ND; RoHS: Yes; Category: Chip SMD Resistors; Stock 1: 12134; Pricing 1: 1=0.10000, 10=0.03400, 100=0.01390, 1000=0.00623, 2500=0.00540 (USD)
simulation model RESISTOR (Resistor)
signal-integrity model Res
footprint 0603R(1608)
pins: 1, 2

## Res0603_17.4k
designator R?, comment 17.4k
RES SMD 17.4K OHM 1% 1/10W 0603; Manufacturer Part Number 1: CRCW060317K4FKEA; Manufacturer 1: Vishay; Resistance: 17.4kR; Power Rating: 100mW; Temperature Coefficient: 100ppm/°C; Voltage Rating: 75V; Case/Package: 0603; Number of Pins: 2; Weight: 7.1E-05oz; Contact Plating: Tin; Case Code (Imperial): 0603; Case Code (Metric): 1608; Min Operating Temperature: -55°C; Max Operating Temperature: 155°C; Tolerance: 1%; Packaging: Tape and Reel; Termination: SMD/SMT; Composition: Thick Film; Package Quantity: 10; Number of Terminations: 2; Max Power Dissipation: 100mW; Features: Automotive AEC-Q200; Military Standard: Not; Voltage Rating (DC): 75V; Length: 1.55mm; Height: 0.02inch; Width: 0.85mm; Depth: 0.85mm; Radiation Hardening: No; Lead Free: Lead Free; REACH SVHC: Unknown; ComponentLink1URL: https://datasheet.ciiva.com/5551/dcrcwe3-109170-5551925.pdf?src-supplier=Mouser; ComponentLink1Description: https://datasheet.ciiva.com/5551/dcrcwe3-109170-5551925.pdf?src-supplier=Mouser; ComponentLink2URL: https://datasheet.ciiva.com/7663/1697337-7663898.pdf?src-supplier=Element14; ComponentLink2Description: https://datasheet.ciiva.com/7663/1697337-7663898.pdf?src-supplier=Element14; ComponentLink3URL: https://datasheet.ciiva.com/7792/66915-7792061.pdf?src-supplier=Element14; ComponentLink3Description: https://datasheet.ciiva.com/7792/66915-7792061.pdf?src-supplier=Element14; ComponentLink4URL: https://datasheet.ciiva.com/16772/70201119-16772094.pdf?src-supplier=Allied+Electronics; ComponentLink4Description: https://datasheet.ciiva.com/16772/70201119-16772094.pdf?src-supplier=Allied+Electronics; ComponentLink5URL: https://datasheet.ciiva.com/2513/dcrcwe3-2513623.pdf?src-supplier=Digi-Key; ComponentLink5Description: https://datasheet.ciiva.com/2513/dcrcwe3-2513623.pdf?src-supplier=Digi-Key; ComponentLink6URL: https://datasheet.ciiva.com/3257/dcrcwe3-3257095.pdf?src-supplier=Avnet; ComponentLink6Description: https://datasheet.ciiva.com/3257/dcrcwe3-3257095.pdf?src-supplier=Avnet; ComponentLink7URL: https://datasheet.ciiva.com/16885/dcrcwe3-16885559.pdf?src-supplier=Avnet+Europe; ComponentLink7Description: https://datasheet.ciiva.com/16885/dcrcwe3-16885559.pdf?src-supplier=Avnet+Europe; ComponentLink8URL: https://datasheet.ciiva.com/22702/1697337-22702711.pdf?src-supplier=Element14; ComponentLink8Description: https://datasheet.ciiva.com/22702/1697337-22702711.pdf?src-supplier=Element14; ComponentLink9URL: https://datasheet.ciiva.com/2513/dcrcwe3-2513624.pdf?src-supplier=Digi-Key; ComponentLink9Description: https://datasheet.ciiva.com/2513/dcrcwe3-2513624.pdf?src-supplier=Digi-Key; ComponentLink10URL: https://datasheet.ciiva.com/3257/dcrcwe3-3257096.pdf?src-supplier=Avnet; ComponentLink10Description: https://datasheet.ciiva.com/3257/dcrcwe3-3257096.pdf?src-supplier=Avnet; ComponentLink11URL: https://datasheet.ciiva.com/22676/1825492-22676328.pdf?src-supplier=Element14; ComponentLink11Description: https://datasheet.ciiva.com/22676/1825492-22676328.pdf?src-supplier=Element14; ComponentLink12URL: https://datasheet.ciiva.com/2513/dcrcwe3-2513625.pdf?src-supplier=Digi-Key; ComponentLink12Description: https://datasheet.ciiva.com/2513/dcrcwe3-2513625.pdf?src-supplier=Digi-Key; ComponentLink13URL: https://datasheet.ciiva.com/7663/1697337-7663897.pdf?src-supplier=Element14; ComponentLink13Description: https://datasheet.ciiva.com/7663/1697337-7663897.pdf?src-supplier=Element14; ComponentLink14URL: https://datasheet.ciiva.com/22869/70201119-22869244.pdf?src-supplier=Allied+Electronics; ComponentLink14Description: https://datasheet.ciiva.com/22869/70201119-22869244.pdf?src-supplier=Allied+Electronics; Pricing 1: 1=0.10000, 10=0.03400, 100=0.01390, 1000=0.00623, 2500=0.00540 (USD); Stock 1: 33957; Category: Chip SMD Resistors; RoHS: Yes; Supplier Part Number 1: 541-17.4KHCT-ND; Supplier 1: Digi-Key
simulation model RESISTOR (Resistor)
signal-integrity model Res
footprint 0603R(1608)
pins: 1, 2

## Res0603_100
designator R?, comment 100OHM
RES SMD 100 OHM 1% 1/10W 0603; Manufacturer Part Number 1: RCG0603100RFKEA; Manufacturer 1: Vishay Dale; Temperature Coefficient: 100ppm/°C; Resistance: 100R; Power Rating: 100mW; Voltage Rating: 75V; Case/Package: 0603; Weight: 7.1E-05oz; Case Code (Metric): 1608; Case Code (Imperial): 0603; Min Operating Temperature: -55°C; Max Operating Temperature: 155°C; Package Quantity: 1; Packaging: Tape and Reel; Tolerance: 1%; Composition: Thick Film; Number of Terminations: 2; Max Power Dissipation: 100mW; Length: 0.061inch; Height: 0.02inch; Width: 0.033inch; ComponentLink1URL: https://datasheet.ciiva.com/18600/rcge3-18600127.pdf?src-supplier=Digi-Key; ComponentLink1Description: https://datasheet.ciiva.com/18600/rcge3-18600127.pdf?src-supplier=Digi-Key; Supplier 1: Digi-Key; Supplier Part Number 1: 541-1778-1-ND; RoHS: Yes; Category: Chip SMD Resistors; Stock 1: 14984; Pricing 1: 1=0.10000, 10=0.09200, 100=0.03520, 1000=0.01549, 2500=0.01338 (USD)
simulation model RESISTOR (Resistor)
signal-integrity model Res
footprint 0603R(1608)
pins: 1, 2

## RFM-0505S
designator U?
RECOM POWER - RFM-0505S - Isolated Board Mount DC/DC Converter, ITE & General, 1 Output, 1 W, 5 V, 200 mA; Max Output Voltage: 5V; Weight: 1.4g; Length: 11.5mm; Height: 10mm; Width: 6mm; ComponentLink1URL: http://www.farnell.com/datasheets/2787866.pdf?src-supplier=Farnell; ComponentLink1Description: http://www.farnell.com/datasheets/2787866.pdf?src-supplier=Farnell; ComponentLink2URL: https://www.recom-power.com/pdf/Econoline/RFM.pdf?src-supplier=Digi-Key; ComponentLink2Description: https://www.recom-power.com/pdf/Econoline/RFM.pdf?src-supplier=Digi-Key; ComponentLink3URL: http://www.farnell.com/datasheets/2787866.pdf?src-supplier=Newark; ComponentLink3Description: http://www.farnell.com/datasheets/2787866.pdf?src-supplier=Newark; Pricing 1: 1=1.40000, 5=1.38000, 10=1.36000, 25=1.32000, 50=1.28000, 100=1.24000, 250=1.20000, 500=1.12000 (USD); Stock 1: 24990; Category: Voltage Regulators - Switching; RoHS: No; Manufacturer Part Number 1: RFM-0505S; Manufacturer 1: Recom; Supplier Part Number 1: 945-3159-ND; Supplier 1: Digi-Key
footprint RFM-0505S
pins: 1 VIN-, 2 VIN+, 3 VOUT-, 4 VOUT+

## RJ45_UNSHIELDED
designator J?, comment Manufacturer Part Number 1: RJE081880110  (hidden comment: RJ45)
CAT3 RJ45 MODULAR JACK, 8 POSITION, 1 PORT; Manufacturer 1: Amphenol Commercial; Direction: User Selectable; Shielding: Unshielded; Number of Ports: 1; Current Rating: 1.5A; Voltage Rating (AC): 125V; Number of Positions: 8; Gender: Female; Contact Resistance: 40mR; Insulation Resistance: 500MR; Max Voltage Rating (AC): 150V; Pitch: 2.54mm; Mount: Through Hole; Housing Material: Thermoplastic; Contact Plating: Gold; Contact Material: Bronze; Color: Black; Min Operating Temperature: -40°C; Max Operating Temperature: 70°C; Orientation: Straight; Connector Type: Jack; Number of Rows: 1; Packaging: Tray; Termination: Solder; Package Quantity: 100; Max Current Rating: 1.5A; Number of Contacts: 8; Number of Positions Loaded: 8; Length: 15.36mm; Radiation Hardening: No; Flammability Rating: UL94 V-0; ComponentLink1URL: https://datasheet.ciiva.com/9396/rje081880x10-9396870.pdf?src-supplier=Avnet; ComponentLink1Description: https://datasheet.ciiva.com/9396/rje081880x10-9396870.pdf?src-supplier=Avnet; ComponentLink2URL: https://datasheet.ciiva.com/686/rje081880x10-686925.pdf?src-supplier=Digi-Key; ComponentLink2Description: https://datasheet.ciiva.com/686/rje081880x10-686925.pdf?src-supplier=Digi-Key; ComponentLink3URL: https://datasheet.ciiva.com/15370/rje081880x10-15370920.pdf?src-supplier=Mouser; ComponentLink3Description: https://datasheet.ciiva.com/15370/rje081880x10-15370920.pdf?src-supplier=Mouser; Pricing 1: 1=1.12000, 10=0.98700, 25=0.92880, 50=0.89020, 100=0.85140, 250=0.77400, 500=0.69660, 1000=0.61920, 2500=0.56115 (USD); RoHS: Yes; Supplier 1: Digi-Key; Stock 1: 3833; Supplier Part Number 1: RJE081880110-ND
footprint RJE081880110 (Amphenol RJ45 vertical)
pins: 1, 2, 3, 4, 5, 6, 7, 8